# EAGLE library part TEXAS_INSTRUMENTS-CURRENT_MONITOR-INA226_DGS_10 (library Module_Regulators)
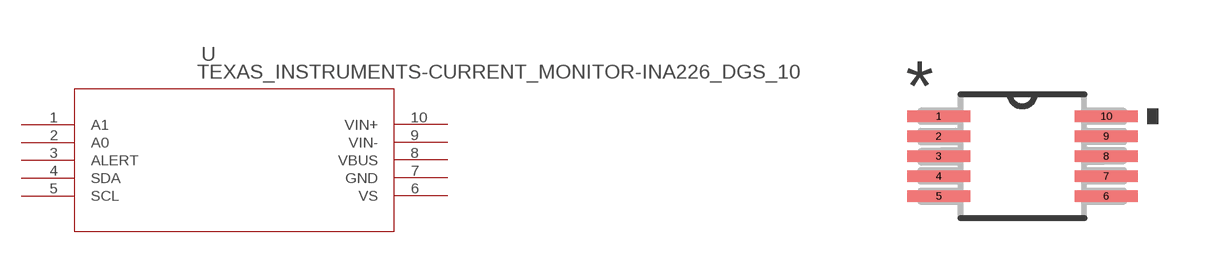
[diagram p12: symbol with the pads of TEXAS_INSTRUMENTS-CURRENT_MONITOR-INA226_DGS_10; footprint TEXAS_INSTRUMENTS-CURRENT_MONITOR-INA226_DGS_10]

Designator prefix U

## TEXAS_INSTRUMENTS-CURRENT_MONITOR-INA226_DGS_10 (DATASHEETURL: httpwww.ti.comlitgpnINA226; FAMILY_NAME: CURRENT SHUNT MONITOR; GENERIC_PART_NUMBER: INA226; INDUSTRY_STD_PKG_TYPE: MSOP; MANUFACTURER: Texas Instruments; MANUFACTURER_PART_NUMBER: ina226_dgs_10; PACKAGE_DESIGNATOR: DGS; PIN_COUNT: 10; VENDOR: Texas Instruments)  [TEXAS_INSTRUMENTS-CURRENT_MONITOR-INA226_DGS_10]
1  A1  pas
2  A0  pas
3  ALERT  out
4  SDA
5  SCL  in
6  VS  pwr
7  GND  pwr
8  VBUS  in
9  VIN-  in
10  VIN+  in

## Footprint TEXAS_INSTRUMENTS-CURRENT_MONITOR-INA226_DGS_10 (pad centres in mm)
smd 1.575 x 0.279: 1 -2.095,1; 2 -2.095,0.5; 3 -2.095,0; 4 -2.095,-0.5; 5 -2.095,-1; 6 2.095,-1; 7 2.095,-0.5; 8 2.095,0; 9 2.095,0.5; 10 2.095,1